# Altium schematic symbol library miniGateway.SCHLIB: 2 symbols
Pins are listed as number, name and electrical type; pins without a type are passive.

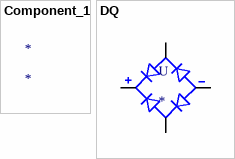
[diagram p0: symbols Component_1 to DQ]

## Component_1
designator *

## DQ
designator U
pins: AC1, AC2, NEG, POS